# Altium integrated library Analog Devices Data Converters Analog-to-Digital Converters.IntLib: 2400 symbols (part 131 of 338)
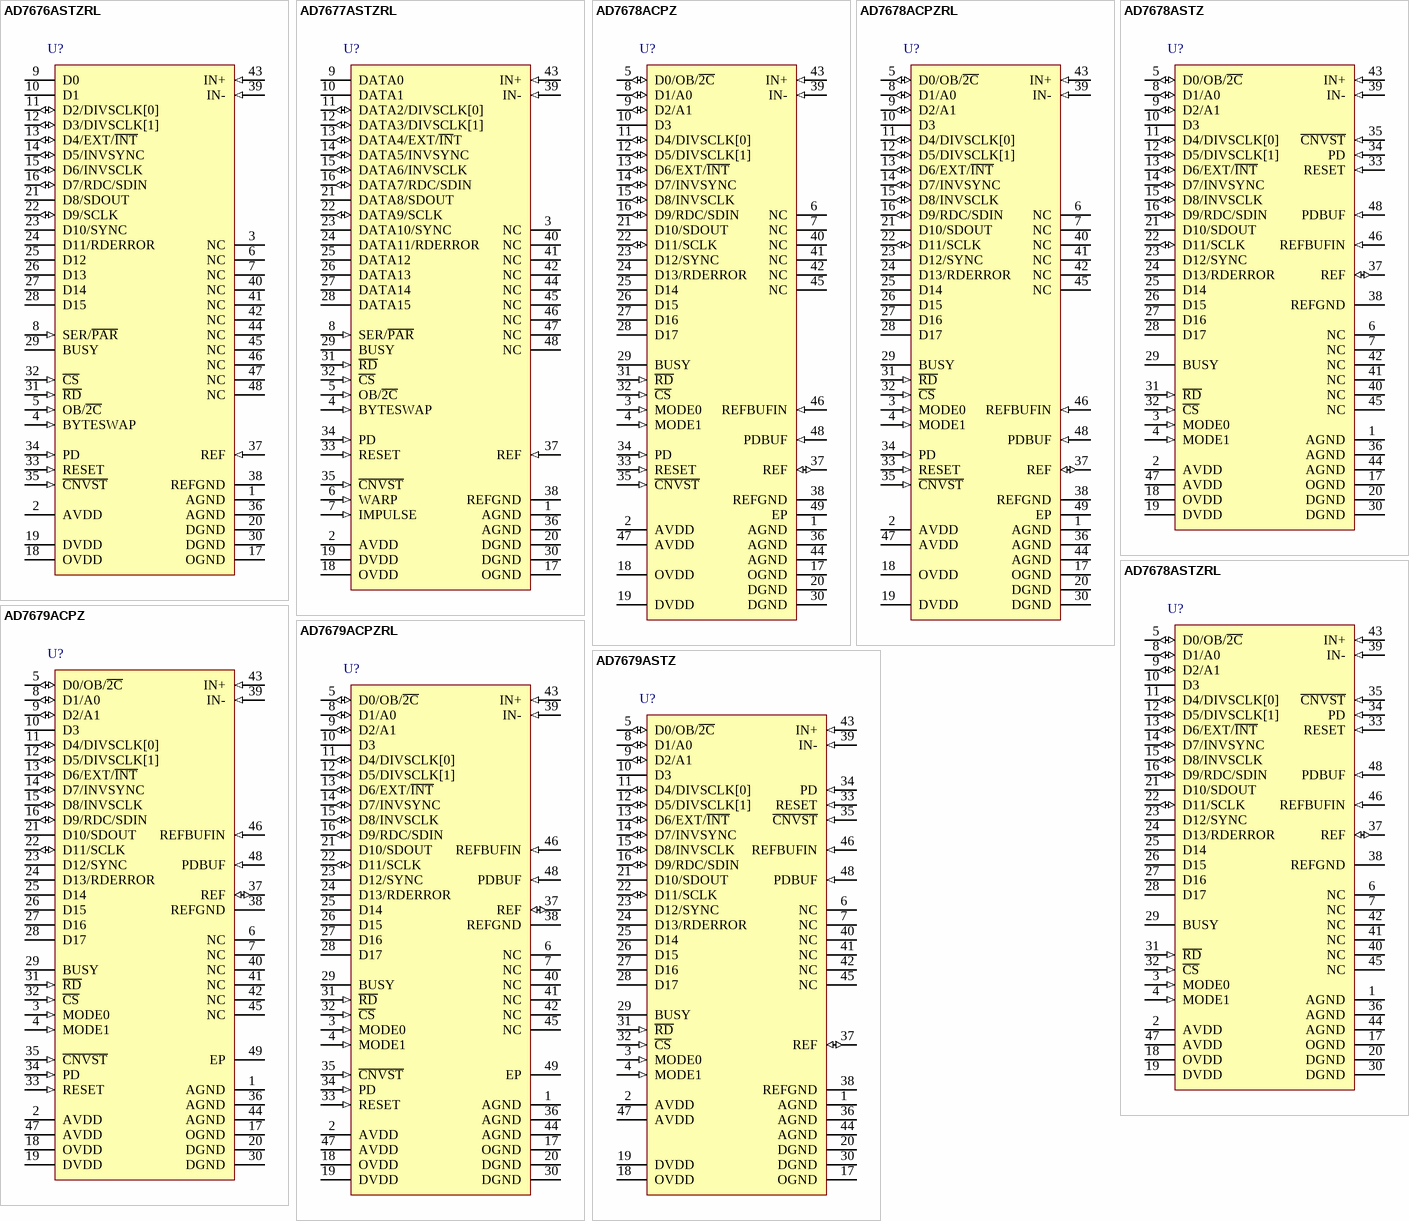
[diagram p231: symbols AD7676ASTZRL to AD7679ASTZ]

## AD7679ACPZRL
designator U?
Single 18-Bit SAR Analog-to-Digital Converter with Byte, Parallel, Serial, SPI Interface, 570KSPS, -40 to +85 degC, CP-48-1, Pb-Free, Reel; Part Number: AD7679; Manufacturer: Analog Devices; Resolution (Bits): 18; Channels: 1; Throughput Rate (SPS): 570K; Interface: Byte, Par, Ser, SPI; Packing: Tray; DatasheetVersion: Rev.A; PackageVersion: Jan-2005; PackageReference: CP-48-1; PackageDescription: 48-Lead Lead Frame Chip Scale Package [LFCSP_VQ] 7 x 7 mm Body, Very Thin Quad; RoHS: Y; Mounting Technology: Surface Mount; Code_JEDEC: MO-220-VKKD-2; ComponentLink1Description: Manufacturer URL; ComponentLink1URL: http://www.analog.com/en/index.html; ComponentLink2Description: Datasheet; ComponentLink2URL: http://www.analog.com/static/imported-files/data_sheets/AD7679.pdf; ComponentLink3Description: Package Specification; ComponentLink3URL: http://www.analog.com/static/imported-files/packages/PKG_PDF/LFCSP(CP)/CP-48/CP_48_1.pdf; ComponentLink4Description: Product URL; ComponentLink4URL: http://www.analog.com/en/analog-to-digital-converters/ad-converters/ad7679/products/product.html
footprint CP-48-1_N (QFN, 48-Leads, Body 7x7mm, Pitch 0.5mm, Thermal Pad 5.1x5.1mm, IPC Medium Density)
footprint CP-48-1_L (QFN, 48-Leads, Body 7x7mm, Pitch 0.5mm, Thermal Pad 5.1x5.1mm, IPC High Density)
footprint CP-48-1_M (QFN, 48-Leads, Body 7x7mm, Pitch 0.5mm, Thermal Pad 5.1x5.1mm, IPC Low Density)
pins: 1 AGND (power) "Analog Power Ground Pin.", 2 AVDD (power) "Input Analog Power Pins. Nominally 5 V.", 3 MODE0 (in) "Data Output Interface Mode Selection.[see datasheet]", 4 MODE1 (in) "Data Output Interface Mode Selection.[see datasheet]", 5 D0/OB/~{2C} (io) "When MODE = 0 (18-bit interface mode), this pin is Bit 0 of the parallel port data output bus and the data coding is straight binary. In all other modes, this pin allows choice of straight binary/binary twos complement. When (See Datasheet)", 6 NC "No Connect.", 7 NC "No Connect.", 8 D1/A0 (io) "When MODE = 0 (18-bit interface mode), this pin is Bit 1 of the parallel port data output bus. In all other modes, this input pin controls the form in which data is output, as shown in Table 7.", 9 D2/A1 (io) "When MODE = 0 or 1 (18-bit or 16-bit interface mode), this pin is Bit 2 of the parallel port data output bus. In all other modes, this input pin controls the form in which data is output, as shown in Table 7.", 10 D3 (hiz) "In all modes except MODE = 3, this output is used as Bit 3 of the parallel port data output bus. This pin is always an output, regardless of the interface mode.", 11 D4/DIVSCLK[0] (io) "In all modes except MODE = 3, this pin are Bit 4 of the parallel port data output bus. When MODE = 3 (serial mode), EXT/I\N\T\ is LOW, and RDC/SDIN is LOW (serial master read after convert), this input, part of the serial (See Datasheet)", 12 D5/DIVSCLK[1] (io) "In all modes except MODE = 3, this pin are Bit 5 of the parallel port data output bus. When MODE = 3 (serial mode), EXT/I\N\T\ is LOW, and RDC/SDIN is LOW (serial master read after convert), these inputs, part of the serial (See Datasheet)", 13 D6/EXT/~{INT} (io) "In all modes except MODE = 3, this output is used as Bit 6 of the parallel port data output bus. When MODE = 3 (serial mode), this input, part of the serial port, is used as a digital select input for choosing the internal (See Datasheet)", 14 D7/INVSYNC (io) "In all modes except MODE = 3, this output is used as Bit 7 of the parallel port data output bus. When MODE = 3 (serial mode), this input, part of the serial port, is used to select the active state of the SYNC signal. When (See Datasheet)", 15 D8/INVSCLK (io) "In all modes except MODE = 3, this output is used as Bit 8 of the parallel port data output bus. When MODE = 3 (serial mode), this input, part of the serial port, is used to invert the SCLK signal. It is active in both (See Datasheet)", 16 D9/RDC/SDIN (io) "In all modes except MODE = 3, this output is used as Bit 9 of the parallel port data output bus. When MODE = 3 (serial mode), this input, part of the serial port, is used as either an external data input or a read mode (See Datasheet)", 17 OGND (power) "Input/Output Interface Digital Power Ground.", 18 OVDD (power) "Output Interface Digital Power. Nominally at the same supply as the host interface (5 V or 3 V). Should not exceed DVDD by more than 0.3 V.", 19 DVDD (power) "Digital Power. Nominally at 5 V.", 20 DGND (power) "Digital Power Ground.", 21 D10/SDOUT (hiz) "In all modes except MODE = 3, this output is used as Bit 10 of the parallel port data output bus. When MODE = 3 (serial mode), this output, part of the serial port, is used as a serial data output synchronized to SCLK. (See Datasheet)", 22 D11/SCLK (io) "In all modes except MODE = 3, this output is used as Bit 11 of the parallel port data output bus. When MODE = 3 (serial mode), this pin, part of the serial port, is used as a serial data clock input or output, dependent upon (See Datasheet)", 23 D12/SYNC (hiz) "In all modes except MODE = 3, this output is used as Bit 12 of the parallel port data output bus. When MODE = 3 (serial mode), this output, part of the serial port, is used as a digital output frame synchronization for use (See Datasheet)", 24 D13/RDERROR (hiz) "In all modes except MODE = 3, this output is used as Bit 13 of the parallel port data output bus. In MODE = 3 (serial mode) and when EXT/ I\N\T\ is HIGH, this output, part of the serial port, is used as an incomplete read (See Datasheet)", 25 D14 (hiz) "Bit 14 of the Parallel Port Data Output Bus. This pin is always output regardless of the interface mode.", 26 D15 (hiz) "Bit 15 of the Parallel Port Data Output Bus. This pin is always output regardless of the interface mode.", 27 D16 (hiz) "Bit 16 of the Parallel Port Data Output Bus. This pin is always output regardless of the interface mode.", 28 D17 (hiz) "Bit 17 of the Parallel Port Data Output Bus. This pin is always output regardless of the interface mode.", 29 BUSY (hiz) "Busy Output. Transitions HIGH when a conversion is started. Remains HIGH until the conversion is complete and the data is latched into the on-chip shift register. The falling edge of BUSY could be used as a data ready clock (See Datasheet)", 30 DGND (power) "Must Be Tied to Digital Ground.", 31 ~{RD} (in) "Read Data. When C\S\ and R\D\ are both LOW, the interface parallel or serial output bus is enabled.", 32 ~{CS} (in) "Chip Select. When C\S\ and R\D\ are both LOW, the interface parallel or serial output bus is enabled. C\S\ is also used to gate the external clock.", 33 RESET (in) "Reset Input. When set to a logic HIGH, reset the AD7679. Current conversion, if any, is aborted. If not used, this pin could be tied to DGND.", 34 PD (in) "Power-Down Input. When set to a logic HIGH, power consumption is reduced and conversions are inhibited after the current one is completed.", 35 ~{CNVST} (in) "Start Conversion. If C\N\V\S\T\ is held HIGH when the acquisition phase (t8) is complete, the next falling edge on C\N\V\S\T\ puts the internal sample/hold into the hold state and initiates a conversion. If C\N\V\S\T\ is (See Datasheet)", 36 AGND (power) "Must Be Tied to Analog Ground.", 37 REF (io) "Reference Input Voltage and Internal Reference Buffer Output. Apply an external reference on this pin if the internal reference buffer is not used. Should be decoupled effectively with or without the internal buffer.", 38 REFGND (power) "Reference Input Analog Ground.", 39 IN- (in) "Differential Negative Analog Input.", 40 NC "No Connect.", 41 NC "No Connect.", 42 NC "No Connect.", 43 IN+ (in) "Differential Positive Analog Input.", 44 AGND (power) "Analog Power Ground Pin.", 45 NC "No Connect.", 46 REFBUFIN (in) "Reference Buffer Input Voltage. The internal reference buffer has a fixed gain. It outputs 4.096 V typically when 2.5 V is applied on this pin.", 47 AVDD (power) "Input Analog Power Pins. Nominally 5 V.", 48 PDBUF (in) "Allows Choice of Buffering Reference. When LOW, buffer is selected. When HIGH, buffer is switched off.", 49 EP (power) "The exposed pad is internally connected to AGND. This connection is not required to meet the electrical performances however, for increased reliability of the solder joints, it is recommended that the pad be soldered to the (See Datasheet)"

## AD7679ASTZ
designator U?
Single 18-Bit SAR Analog-to-Digital Converter with Byte, Parallel, Serial, SPI Interface, 570KSPS, -40 to +85 degC, ST-48, Pb-Free, Tray; Part Number: AD7679; Manufacturer: Analog Devices; Resolution (Bits): 18; Channels: 1; Throughput Rate (SPS): 570K; Interface: Byte, Par, Ser, SPI; DatasheetVersion: Rev.A; PackageVersion: revA; PackageReference: ST-48; PackageDescription: 48-Pin Thin Quad Flat Pack 0.5 mm Pitch; RoHS: Y; Packing: Tray; Mounting Technology: Surface Mount; ComponentLink1Description: Manufacturer URL; ComponentLink1URL: http://www.analog.com/en/index.html; ComponentLink2Description: Datasheet; ComponentLink2URL: http://www.analog.com/static/imported-files/data_sheets/AD7679.pdf; ComponentLink3Description: Package Specification; ComponentLink3URL: http://www.analog.com/static/imported-files/packages/PKG_PDF/LQFP%28ST%29/ST_48.pdf; ComponentLink4Description: Product URL; ComponentLink4URL: http://www.analog.com/en/analog-to-digital-converters/ad-converters/ad7679/products/product.html
footprint ST-48_N (Thin QFP, 48-Leads, Body 7x7mm, Pitch 0.5mm, IPC Medium Density)
footprint ST-48_L (Thin QFP, 48-Leads, Body 7x7mm, Pitch 0.5mm, IPC High Density)
footprint ST-48_M (Thin QFP, 48-Leads, Body 7x7mm, Pitch 0.5mm, IPC Low Density)
pins: 1 AGND (power), 2 AVDD (power) "Input Analog Power Pins. Nominally 5 V.", 3 MODE0 (in) "Data Output Interface Mode Selection", 4 MODE1 (in) "Data Output Interface Mode Selection", 5 D0/OB/~{2C} (io) "When MODE = 0 (18-bit interface mode), this pin is Bit 0 of the parallel port data output bus and the  data coding is straight binary. In all other modes, this pin allows choice of straight binary/binary twos  complement. (See Datasheet)", 6 NC "No Connect.", 7 NC "No Connect.", 8 D1/A0 (io) "When MODE = 0 (18-bit interface mode), this pin is Bit 1 of the parallel port data output bus. In all  other modes, this input pin controls the form in which data is output, as shown in Table 7.", 9 D2/A1 (io) "When MODE = 0 or 1 (18-bit or 16-bit interface mode), this pin is Bit 2 of the parallel port data output  bus. In all other modes, this input pin controls the form in which data is output, as shown in Table 7.", 10 D3 (hiz) "In all modes except MODE = 3, this output is used as Bit 3 of the parallel port data output bus. This pin  is always an output, regardless of the interface mode.", 11 D4/DIVSCLK[0] (io) "In all modes except MODE = 3, these pins are Bit 4 of the parallel port data output bus.  When MODE = 3 (serial mode), EXT/I\N\T\ is LOW, and RDC/SDIN is LOW (serial master read after  convert), these inputs, part of the (See Datasheet)", 12 D5/DIVSCLK[1] (io) "In all modes except MODE = 3, these pins are Bit 5 of the parallel port data output bus.  When MODE = 3 (serial mode), EXT/I\N\T\ is LOW, and RDC/SDIN is LOW (serial master read after  convert), these inputs, part of the (See Datasheet)", 13 D6/EXT/~{INT} (io) "In all modes except MODE = 3, this output is used as Bit 6 of the parallel port data output bus.  When MODE = 3 (serial mode), this input, part of the serial port, is used as a digital select input for  choosing the internal (See Datasheet)", 14 D7/INVSYNC (io) "In all modes except MODE = 3, this output is used as Bit 7 of the parallel port data output bus.  When MODE = 3 (serial mode), this input, part of the serial port, is used to select the active state of the  SYNC signal. When (See Datasheet)", 15 D8/INVSCLK (io) "In all modes except MODE = 3, this output is used as Bit 8 of the parallel port data output bus.  When MODE = 3 (serial mode), this input, part of the serial port, is used to invert the SCLK signal. It is  active in both (See Datasheet)", 16 D9/RDC/SDIN (io) "In all modes except MODE = 3, this output is used as Bit 9 of the parallel port data output bus.   When MODE = 3 (serial mode), this input, part of the serial port, is used as either an external data  input or a read mode (See Datasheet)", 17 OGND (power) "Input/Output Interface Digital Power Ground.", 18 OVDD (power) "Output Interface Digital Power. Nominally at the same supply as the host interface (5 V or 3 V). Should  not exceed DVDD by more than 0.3 V.", 19 DVDD (power) "Digital Power. Nominally at 5 V.", 20 DGND (power) "Digital Power Ground.", 21 D10/SDOUT (hiz) "In all modes except MODE = 3, this output is used as Bit 10 of the parallel port data output bus.  When MODE = 3 (serial mode), this output, part of the serial port, is used as a serial data output  synchronized to SCLK. (See Datasheet)", 22 D11/SCLK (io) "In all modes except MODE = 3, this output is used as Bit 11 of the parallel port data output bus.  When MODE = 3 (serial mode), this pin, part of the serial port, is used as a serial data clock input or  output, dependent (See Datasheet)", 23 D12/SYNC (hiz) "In all modes except MODE = 3, this output is used as Bit 12 of the parallel port data output bus.  When MODE = 3 (serial mode), this output, part of the serial port, is used as a digital output frame  synchronization for use (See Datasheet)", 24 D13/RDERROR (hiz) "In all modes except MODE = 3, this output is used as Bit 13 of the parallel port data output bus.  In MODE = 3 (serial mode) and when EXT/ I\N\T\ is HIGH, this output, part of the serial port, is used as an  incomplete read (See Datasheet)", 25 D14 (hiz) "Bit 14 of the Parallel Port Data Output Bus. These pins are always outputs regardless of the  interface mode.", 26 D15 (hiz) "Bit 15 of the Parallel Port Data Output Bus. These pins are always outputs regardless of the  interface mode.", 27 D16 (hiz) "Bit 16 of the Parallel Port Data Output Bus. These pins are always outputs regardless of the  interface mode.", 28 D17 (hiz) "Bit 17 of the Parallel Port Data Output Bus. These pins are always outputs regardless of the  interface mode.", 29 BUSY (hiz) "Busy Output. Transitions HIGH when a conversion is started. Remains HIGH until the conversion is  complete and the data is latched into the on-chip shift register. The falling edge of BUSY could be  used as a data ready (See Datasheet)", 30 DGND (power) "Must Be Tied to Digital Ground.", 31 ~{RD} (in) "Read Data. When C\S\ and R\D\ are both LOW, the interface parallel or serial output bus is enabled.", 32 ~{CS} (in) "Chip Select. When C\S\ and R\D\ are both LOW, the interface parallel or serial output bus is enabled. C\S\ is also used to gate the external clock.", 33 RESET (in) "Reset Input. When set to a logic HIGH, reset the AD7679. Current conversion, if any, is aborted. If not  used, this pin could be tied to DGND.", 34 PD (in) "Power-Down Input. When set to a logic HIGH, power consumption is reduced and conversions are  inhibited after the current one is completed.", 35 ~{CNVST} (in) "Start Conversion. If C\N\V\S\T\ is held HIGH when the acquisition phase (t8) is complete, the next falling  edge on C\N\V\S\T\ puts the internal sample/hold into the hold state and initiates a conversion. If C\N\V\S\T\ is (See Datasheet)", 36 AGND (power) "Must Be Tied to Analog Ground.", 37 REF (io) "Reference Input Voltage and Internal Reference Buffer Output. Apply an external reference on this pin if the internal reference buffer is not used. Should be decoupled effectively with or without the internal buffer.", 38 REFGND (power) "Reference Input Analog Ground.", 39 IN- (in) "Differential Negative Analog Input.", 40 NC "No Connect.", 41 NC "No Connect.", 42 NC "No Connect.", 43 IN+ (in) "Differential Positive Analog Input.", 44 AGND (power) "Analog Power Ground Pin.", 45 NC "No Connect.", 46 REFBUFIN (in) "Reference Buffer Input Voltage. The internal reference buffer has a fixed gain. It outputs 4.096 V  typically when 2.5 V is applied on this pin.", 47 AVDD (power) "Input Analog Power Pins. Nominally 5 V.", 48 PDBUF (in) "Allows Choice of Buffering Reference. When LOW, buffer is selected. When HIGH, buffer is switched off."

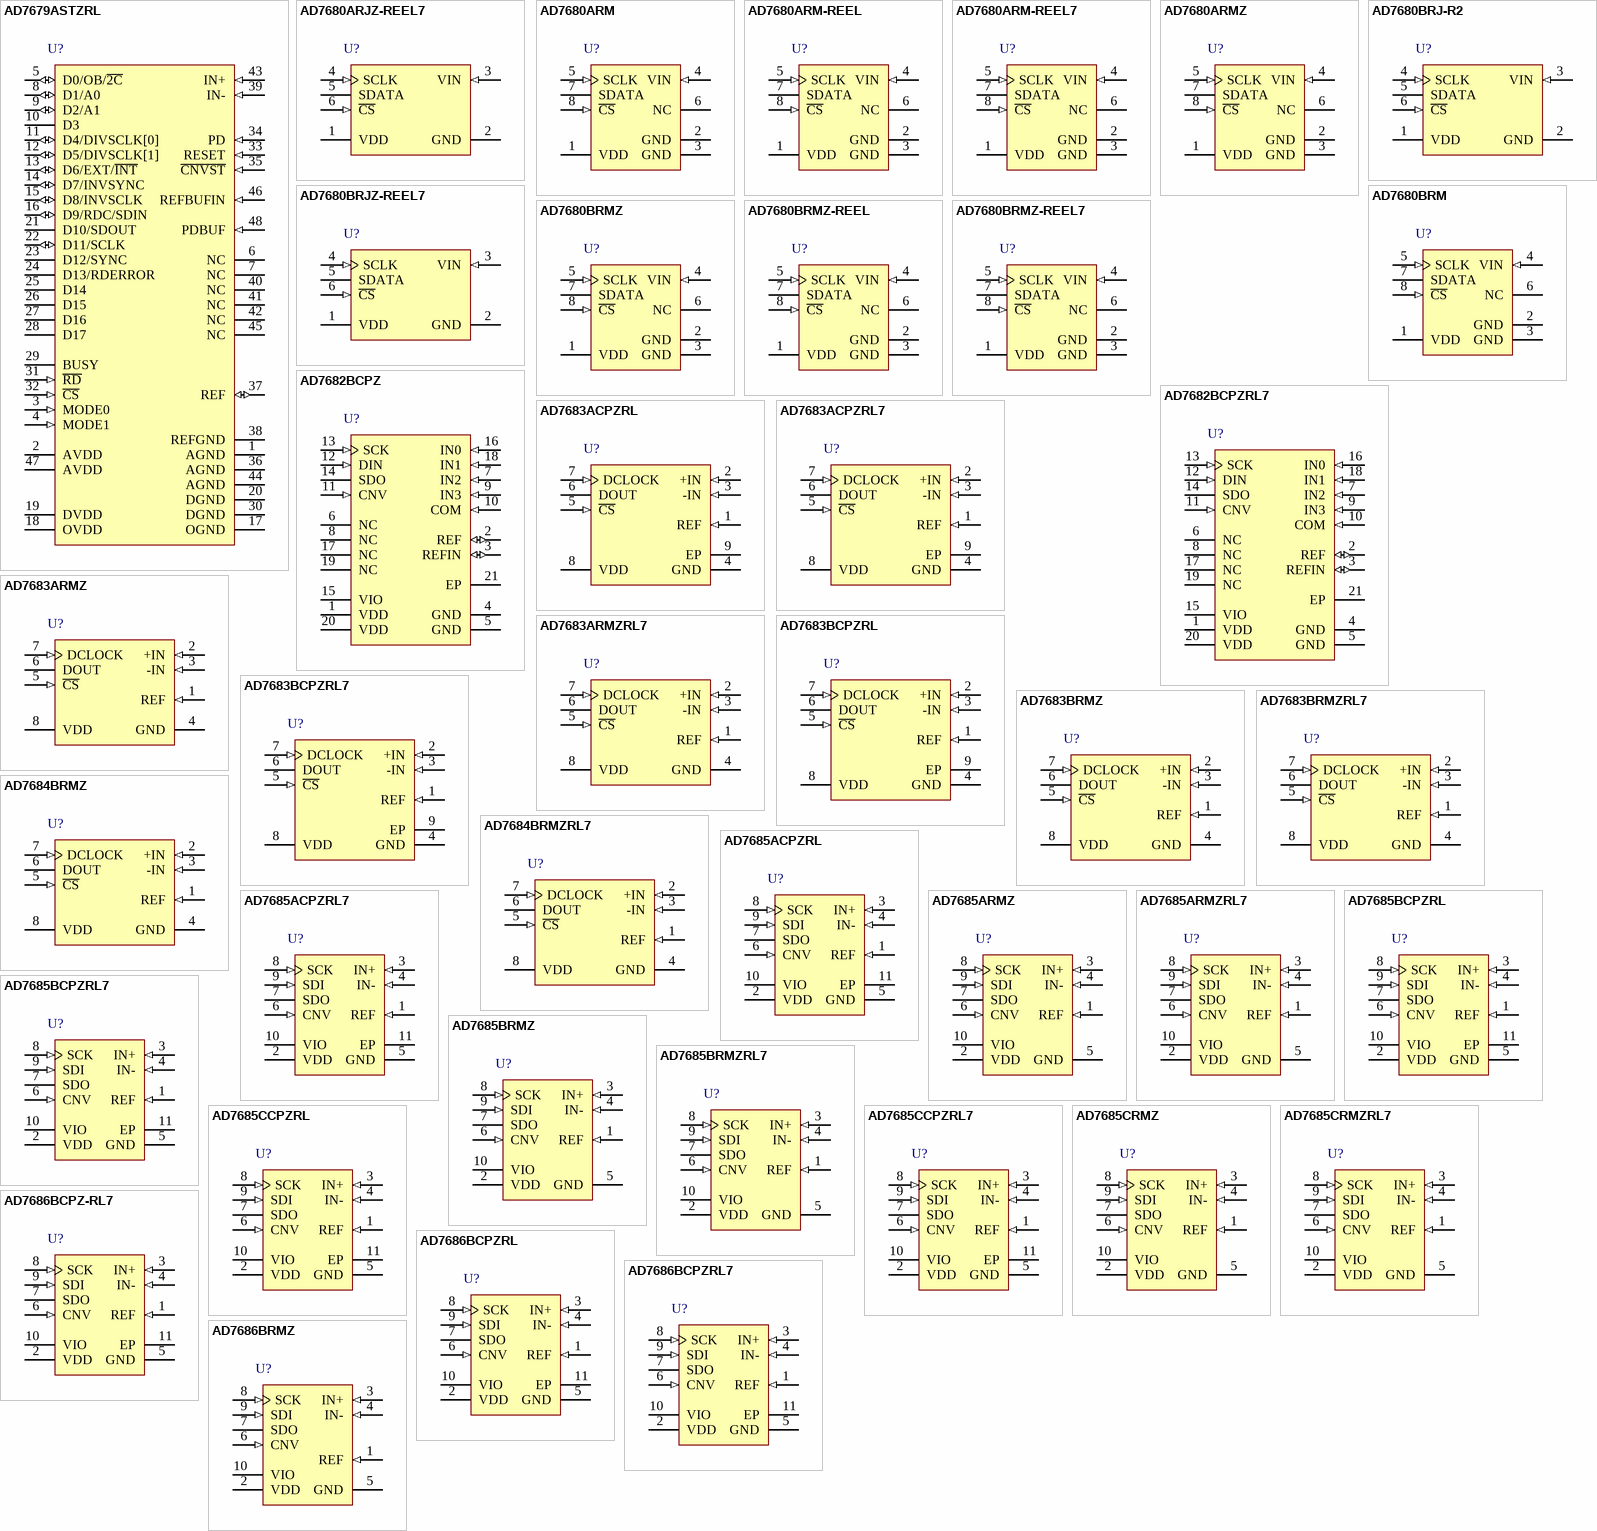
[diagram p44: symbols AD7679ASTZRL to AD7686BRMZ]

## AD7679ASTZRL
designator U?
Single 18-Bit SAR Analog-to-Digital Converter with Byte, Parallel, Serial, SPI Interface, 570KSPS, -40 to +85 degC, ST-48, Pb-Free, Reel; Part Number: AD7679; Manufacturer: Analog Devices; Resolution (Bits): 18; Channels: 1; Throughput Rate (SPS): 570K; Interface: Byte, Par, Ser, SPI; DatasheetVersion: Rev.A; PackageVersion: revA; PackageReference: ST-48; PackageDescription: 48-Pin Thin Quad Flat Pack 0.5 mm Pitch; RoHS: Y; Packing: Reel; Mounting Technology: Surface Mount; ComponentLink1Description: Manufacturer URL; ComponentLink1URL: http://www.analog.com/en/index.html; ComponentLink2Description: Datasheet; ComponentLink2URL: http://www.analog.com/static/imported-files/data_sheets/AD7679.pdf; ComponentLink3Description: Package Specification; ComponentLink3URL: http://www.analog.com/static/imported-files/packages/PKG_PDF/LQFP%28ST%29/ST_48.pdf; ComponentLink4Description: Product URL; ComponentLink4URL: http://www.analog.com/en/analog-to-digital-converters/ad-converters/ad7679/products/product.html
footprint ST-48_N (Thin QFP, 48-Leads, Body 7x7mm, Pitch 0.5mm, IPC Medium Density)
footprint ST-48_L (Thin QFP, 48-Leads, Body 7x7mm, Pitch 0.5mm, IPC High Density)
footprint ST-48_M (Thin QFP, 48-Leads, Body 7x7mm, Pitch 0.5mm, IPC Low Density)
pins: 1 AGND (power), 2 AVDD (power) "Input Analog Power Pins. Nominally 5 V.", 3 MODE0 (in) "Data Output Interface Mode Selection", 4 MODE1 (in) "Data Output Interface Mode Selection", 5 D0/OB/~{2C} (io) "When MODE = 0 (18-bit interface mode), this pin is Bit 0 of the parallel port data output bus and the  data coding is straight binary. In all other modes, this pin allows choice of straight binary/binary twos  complement. (See Datasheet)", 6 NC "No Connect.", 7 NC "No Connect.", 8 D1/A0 (io) "When MODE = 0 (18-bit interface mode), this pin is Bit 1 of the parallel port data output bus. In all  other modes, this input pin controls the form in which data is output, as shown in Table 7.", 9 D2/A1 (io) "When MODE = 0 or 1 (18-bit or 16-bit interface mode), this pin is Bit 2 of the parallel port data output  bus. In all other modes, this input pin controls the form in which data is output, as shown in Table 7.", 10 D3 (hiz) "In all modes except MODE = 3, this output is used as Bit 3 of the parallel port data output bus. This pin  is always an output, regardless of the interface mode.", 11 D4/DIVSCLK[0] (io) "In all modes except MODE = 3, these pins are Bit 4 of the parallel port data output bus.  When MODE = 3 (serial mode), EXT/I\N\T\ is LOW, and RDC/SDIN is LOW (serial master read after  convert), these inputs, part of the (See Datasheet)", 12 D5/DIVSCLK[1] (io) "In all modes except MODE = 3, these pins are Bit 5 of the parallel port data output bus.  When MODE = 3 (serial mode), EXT/I\N\T\ is LOW, and RDC/SDIN is LOW (serial master read after  convert), these inputs, part of the (See Datasheet)", 13 D6/EXT/~{INT} (io) "In all modes except MODE = 3, this output is used as Bit 6 of the parallel port data output bus.  When MODE = 3 (serial mode), this input, part of the serial port, is used as a digital select input for  choosing the internal (See Datasheet)", 14 D7/INVSYNC (io) "In all modes except MODE = 3, this output is used as Bit 7 of the parallel port data output bus.  When MODE = 3 (serial mode), this input, part of the serial port, is used to select the active state of the  SYNC signal. When (See Datasheet)", 15 D8/INVSCLK (io) "In all modes except MODE = 3, this output is used as Bit 8 of the parallel port data output bus.  When MODE = 3 (serial mode), this input, part of the serial port, is used to invert the SCLK signal. It is  active in both (See Datasheet)", 16 D9/RDC/SDIN (io) "In all modes except MODE = 3, this output is used as Bit 9 of the parallel port data output bus.   When MODE = 3 (serial mode), this input, part of the serial port, is used as either an external data  input or a read mode (See Datasheet)", 17 OGND (power) "Input/Output Interface Digital Power Ground.", 18 OVDD (power) "Output Interface Digital Power. Nominally at the same supply as the host interface (5 V or 3 V). Should  not exceed DVDD by more than 0.3 V.", 19 DVDD (power) "Digital Power. Nominally at 5 V.", 20 DGND (power) "Digital Power Ground.", 21 D10/SDOUT (hiz) "In all modes except MODE = 3, this output is used as Bit 10 of the parallel port data output bus.  When MODE = 3 (serial mode), this output, part of the serial port, is used as a serial data output  synchronized to SCLK. (See Datasheet)", 22 D11/SCLK (io) "In all modes except MODE = 3, this output is used as Bit 11 of the parallel port data output bus.  When MODE = 3 (serial mode), this pin, part of the serial port, is used as a serial data clock input or  output, dependent (See Datasheet)", 23 D12/SYNC (hiz) "In all modes except MODE = 3, this output is used as Bit 12 of the parallel port data output bus.  When MODE = 3 (serial mode), this output, part of the serial port, is used as a digital output frame  synchronization for use (See Datasheet)", 24 D13/RDERROR (hiz) "In all modes except MODE = 3, this output is used as Bit 13 of the parallel port data output bus.  In MODE = 3 (serial mode) and when EXT/ I\N\T\ is HIGH, this output, part of the serial port, is used as an  incomplete read (See Datasheet)", 25 D14 (hiz) "Bit 14 of the Parallel Port Data Output Bus. These pins are always outputs regardless of the  interface mode.", 26 D15 (hiz) "Bit 15 of the Parallel Port Data Output Bus. These pins are always outputs regardless of the  interface mode.", 27 D16 (hiz) "Bit 16 of the Parallel Port Data Output Bus. These pins are always outputs regardless of the  interface mode.", 28 D17 (hiz) "Bit 17 of the Parallel Port Data Output Bus. These pins are always outputs regardless of the  interface mode.", 29 BUSY (hiz) "Busy Output. Transitions HIGH when a conversion is started. Remains HIGH until the conversion is  complete and the data is latched into the on-chip shift register. The falling edge of BUSY could be  used as a data ready (See Datasheet)", 30 DGND (power) "Must Be Tied to Digital Ground.", 31 ~{RD} (in) "Read Data. When C\S\ and R\D\ are both LOW, the interface parallel or serial output bus is enabled.", 32 ~{CS} (in) "Chip Select. When C\S\ and R\D\ are both LOW, the interface parallel or serial output bus is enabled. C\S\ is also used to gate the external clock.", 33 RESET (in) "Reset Input. When set to a logic HIGH, reset the AD7679. Current conversion, if any, is aborted. If not  used, this pin could be tied to DGND.", 34 PD (in) "Power-Down Input. When set to a logic HIGH, power consumption is reduced and conversions are  inhibited after the current one is completed.", 35 ~{CNVST} (in) "Start Conversion. If C\N\V\S\T\ is held HIGH when the acquisition phase (t8) is complete, the next falling  edge on C\N\V\S\T\ puts the internal sample/hold into the hold state and initiates a conversion. If C\N\V\S\T\ is (See Datasheet)", 36 AGND (power) "Must Be Tied to Analog Ground.", 37 REF (io) "Reference Input Voltage and Internal Reference Buffer Output. Apply an external reference on this pin if the internal reference buffer is not used. Should be decoupled effectively with or without the internal buffer.", 38 REFGND (power) "Reference Input Analog Ground.", 39 IN- (in) "Differential Negative Analog Input.", 40 NC "No Connect.", 41 NC "No Connect.", 42 NC "No Connect.", 43 IN+ (in) "Differential Positive Analog Input.", 44 AGND (power) "Analog Power Ground Pin.", 45 NC "No Connect.", 46 REFBUFIN (in) "Reference Buffer Input Voltage. The internal reference buffer has a fixed gain. It outputs 4.096 V  typically when 2.5 V is applied on this pin.", 47 AVDD (power) "Input Analog Power Pins. Nominally 5 V.", 48 PDBUF (in) "Allows Choice of Buffering Reference. When LOW, buffer is selected. When HIGH, buffer is switched off."

## AD7680ARJZ-REEL7
designator U?
Single 16-Bit Analog-to-Digital Converter with Serial, SPI Interface, 100KSPS, -40 to +85 degC, RJ-6, Pb-Free, Reel; Part Number: AD7680; Manufacturer: Analog Devices; Resolution (Bits): 16; Channels: 1; Throughput Rate (SPS): 100K; Interface: Ser, SPI; DatasheetVersion: Rev. A; PackageVersion: 121608-A; PackageReference: RJ-6; PackageDescription: 6-Lead Small Outline Transistor Package [SOT-23]; RoHS: Y; Packing: Reel; Mounting Technology: Surface Mount; Code_JEDEC: MO-178-AB; ComponentLink1Description: Manufacturer URL; ComponentLink1URL: http://www.analog.com/en/index.html; ComponentLink2Description: Datasheet; ComponentLink2URL: http://www.analog.com/static/imported-files/data_sheets/AD7680.pdf; ComponentLink3Description: Package Specification; ComponentLink3URL: http://www.analog.com/static/imported-files/packages/PKG_PDF/SOT-23(RJ)/RJ_6.pdf; ComponentLink4Description: Product URL; ComponentLink4URL: http://www.analog.com/en/analog-to-digital-converters/ad-converters/ad7680/products/product.html
footprint RJ-6_N (SOT23, 6-Leads, Body 2.9x1.6mm, Pitch 0.95mm, Lead Span 2.8mm, IPC Medium Density)
footprint RJ-6_L (SOT23, 6-Leads, Body 2.9x1.6mm, Pitch 0.95mm, Lead Span 2.8mm, IPC High Density)
footprint RJ-6_M (SOT23, 6-Leads, Body 2.9x1.6mm, Pitch 0.95mm, Lead Span 2.8mm, IPC Low Density)
pins: 1 VDD (power) "Power Supply Input. The VDD range for the AD7680 is from 2.5 V to 5.5 V.", 2 GND (power) "Analog Ground. Ground reference point for all circuitry on the AD7680. All analog input signals should be referred to this GND voltage.", 3 VIN (in) "Analog Input. Single-ended analog input channel. The input range is 0 V to VDD.", 4 SCLK (in) "Serial Clock. Logic input. SCLK provides the serial clock for accessing data from this part. This clock input is also used as the clock source for the AD7680's conversion process.", 5 SDATA (hiz) "Data Out. Logic output. The conversion result from the AD7680 is provided on this output as a serial  data stream. The bits are clocked out on the falling edge of the SCLK input. The data stream from the AD7680 consists of (See Datasheet)", 6 ~{CS} (in) "Chip Select. Active low logic input. This input provides the dual function of initiating conversions on the AD7680 and framing the serial data transfer."

## AD7680ARM
designator U?
Single 16-Bit Analog-to-Digital Converter with Serial, SPI Interface, 100KSPS, -40 to +85 degC, RM-8, Tube; Part Number: AD7680; Manufacturer: Analog Devices; Resolution (Bits): 16; Channels: 1; Throughput Rate (SPS): 100K; Interface: Ser, SPI; DatasheetVersion: Rev. A; PackageVersion: Aug-2005; PackageReference: RM-8; PackageDescription: 8-Lead Mini Small Outline Package [MSOP]; RoHS: N; Packing: Tube; Mounting Technology: Surface Mount; Code_JEDEC: MO-187-AA; ComponentLink1Description: Manufacturer URL; ComponentLink1URL: http://www.analog.com/en/index.html; ComponentLink2Description: Datasheet; ComponentLink2URL: http://www.analog.com/static/imported-files/data_sheets/AD7680.pdf; ComponentLink3Description: Package Specification; ComponentLink3URL: http://www.analog.com/static/imported-files/packages/PKG_PDF/MSOP%28RM%29/RM_8.pdf; ComponentLink4Description: Product URL; ComponentLink4URL: http://www.analog.com/en/analog-to-digital-converters/ad-converters/ad7680/products/product.html
footprint RM-8_N (TSOP, 8-Leads, Body 3x3mm, Pitch 0.65mm, IPC Medium Density)
footprint RM-8_L (TSOP, 8-Leads, Body 3x3mm, Pitch 0.65mm, IPC High Density)
footprint RM-8_M (TSOP, 8-Leads, Body 3x3mm, Pitch 0.65mm, IPC Low Density)
pins: 1 VDD (power) "Power Supply Input. The VDD range for the AD7680 is from 2.5 V to 5.5 V.", 2 GND (power) "Analog Ground. Ground reference point for all circuitry on the AD7680. All analog input signals should be referred to this GND voltage.", 3 GND (power) "Analog Ground. Ground reference point for all circuitry on the AD7680. All analog input signals should be referred to this GND voltage.", 4 VIN (in) "Analog Input. Single-ended analog input channel. The input range is 0 V to VDD", 5 SCLK (in) "Serial Clock. Logic input. SCLK provides the serial clock for accessing data from this part. This clock input is also used as the clock source for the AD7680's conversion process.", 6 NC "No Connect. This pin should be left unconnected.", 7 SDATA (hiz) "Data Out. Logic output. The conversion result from the AD7680 is provided on this output as a serial data stream. The bits are clocked out on the falling edge of the SCLK input. The data stream from the AD7680 consists of (See Datasheet)", 8 ~{CS} (in) "Chip Select. Active low logic input. This input provides the dual function of initiating conversions on the AD7680 and framing the serial data transfer."

## AD7680ARM-REEL
designator U?
Single 16-Bit Analog-to-Digital Converter with Serial, SPI Interface, 100KSPS, -40 to +85 degC, RM-8, Reel; Part Number: AD7680; Manufacturer: Analog Devices; Resolution (Bits): 16; Channels: 1; Throughput Rate (SPS): 100K; Interface: Ser, SPI; DatasheetVersion: Rev. A; PackageVersion: Aug-2005; PackageReference: RM-8; PackageDescription: 8-Lead Mini Small Outline Package [MSOP]; RoHS: N; Packing: Reel; Mounting Technology: Surface Mount; Code_JEDEC: MO-187-AA; ComponentLink1Description: Manufacturer URL; ComponentLink1URL: http://www.analog.com/en/index.html; ComponentLink2Description: Datasheet; ComponentLink2URL: http://www.analog.com/static/imported-files/data_sheets/AD7680.pdf; ComponentLink3Description: Package Specification; ComponentLink3URL: http://www.analog.com/static/imported-files/packages/PKG_PDF/MSOP%28RM%29/RM_8.pdf; ComponentLink4Description: Product URL; ComponentLink4URL: http://www.analog.com/en/analog-to-digital-converters/ad-converters/ad7680/products/product.html
footprint RM-8_N (TSOP, 8-Leads, Body 3x3mm, Pitch 0.65mm, IPC Medium Density)
footprint RM-8_L (TSOP, 8-Leads, Body 3x3mm, Pitch 0.65mm, IPC High Density)
footprint RM-8_M (TSOP, 8-Leads, Body 3x3mm, Pitch 0.65mm, IPC Low Density)
pins: 1 VDD (power) "Power Supply Input. The VDD range for the AD7680 is from 2.5 V to 5.5 V.", 2 GND (power) "Analog Ground. Ground reference point for all circuitry on the AD7680. All analog input signals should be referred to this GND voltage.", 3 GND (power) "Analog Ground. Ground reference point for all circuitry on the AD7680. All analog input signals should be referred to this GND voltage.", 4 VIN (in) "Analog Input. Single-ended analog input channel. The input range is 0 V to VDD", 5 SCLK (in) "Serial Clock. Logic input. SCLK provides the serial clock for accessing data from this part. This clock input is also used as the clock source for the AD7680's conversion process.", 6 NC "No Connect. This pin should be left unconnected.", 7 SDATA (hiz) "Data Out. Logic output. The conversion result from the AD7680 is provided on this output as a serial data stream. The bits are clocked out on the falling edge of the SCLK input. The data stream from the AD7680 consists of (See Datasheet)", 8 ~{CS} (in) "Chip Select. Active low logic input. This input provides the dual function of initiating conversions on the AD7680 and framing the serial data transfer."

## AD7680ARM-REEL7
designator U?
Single 16-Bit Analog-to-Digital Converter with Serial, SPI Interface, 100KSPS, -40 to +85 degC, RM-8, Reel; Part Number: AD7680; Manufacturer: Analog Devices; Resolution (Bits): 16; Channels: 1; Throughput Rate (SPS): 100K; Interface: Ser, SPI; DatasheetVersion: Rev. A; PackageVersion: Aug-2005; PackageReference: RM-8; PackageDescription: 8-Lead Mini Small Outline Package [MSOP]; RoHS: N; Packing: Reel; Mounting Technology: Surface Mount; Code_JEDEC: MO-187-AA; ComponentLink1Description: Manufacturer URL; ComponentLink1URL: http://www.analog.com/en/index.html; ComponentLink2Description: Datasheet; ComponentLink2URL: http://www.analog.com/static/imported-files/data_sheets/AD7680.pdf; ComponentLink3Description: Package Specification; ComponentLink3URL: http://www.analog.com/static/imported-files/packages/PKG_PDF/MSOP%28RM%29/RM_8.pdf; ComponentLink4Description: Product URL; ComponentLink4URL: http://www.analog.com/en/analog-to-digital-converters/ad-converters/ad7680/products/product.html
footprint RM-8_N (TSOP, 8-Leads, Body 3x3mm, Pitch 0.65mm, IPC Medium Density)
footprint RM-8_L (TSOP, 8-Leads, Body 3x3mm, Pitch 0.65mm, IPC High Density)
footprint RM-8_M (TSOP, 8-Leads, Body 3x3mm, Pitch 0.65mm, IPC Low Density)
pins: 1 VDD (power) "Power Supply Input. The VDD range for the AD7680 is from 2.5 V to 5.5 V.", 2 GND (power) "Analog Ground. Ground reference point for all circuitry on the AD7680. All analog input signals should be referred to this GND voltage.", 3 GND (power) "Analog Ground. Ground reference point for all circuitry on the AD7680. All analog input signals should be referred to this GND voltage.", 4 VIN (in) "Analog Input. Single-ended analog input channel. The input range is 0 V to VDD", 5 SCLK (in) "Serial Clock. Logic input. SCLK provides the serial clock for accessing data from this part. This clock input is also used as the clock source for the AD7680's conversion process.", 6 NC "No Connect. This pin should be left unconnected.", 7 SDATA (hiz) "Data Out. Logic output. The conversion result from the AD7680 is provided on this output as a serial data stream. The bits are clocked out on the falling edge of the SCLK input. The data stream from the AD7680 consists of (See Datasheet)", 8 ~{CS} (in) "Chip Select. Active low logic input. This input provides the dual function of initiating conversions on the AD7680 and framing the serial data transfer."

## AD7680ARMZ
designator U?
Single 16-Bit Analog-to-Digital Converter with Serial, SPI Interface, 100KSPS, -40 to +85 degC, RM-8, Pb-Free, Tube; Part Number: AD7680; Manufacturer: Analog Devices; Resolution (Bits): 16; Channels: 1; Throughput Rate (SPS): 100K; Interface: Ser, SPI; DatasheetVersion: Rev. A; PackageVersion: Aug-2005; PackageReference: RM-8; PackageDescription: 8-Lead Mini Small Outline Package [MSOP]; RoHS: Y; Packing: Tube; Mounting Technology: Surface Mount; Code_JEDEC: MO-187-AA; ComponentLink1Description: Manufacturer URL; ComponentLink1URL: http://www.analog.com/en/index.html; ComponentLink2Description: Datasheet; ComponentLink2URL: http://www.analog.com/static/imported-files/data_sheets/AD7680.pdf; ComponentLink3Description: Package Specification; ComponentLink3URL: http://www.analog.com/static/imported-files/packages/PKG_PDF/MSOP%28RM%29/RM_8.pdf; ComponentLink4Description: Product URL; ComponentLink4URL: http://www.analog.com/en/analog-to-digital-converters/ad-converters/ad7680/products/product.html
footprint RM-8_N (TSOP, 8-Leads, Body 3x3mm, Pitch 0.65mm, IPC Medium Density)
footprint RM-8_L (TSOP, 8-Leads, Body 3x3mm, Pitch 0.65mm, IPC High Density)
footprint RM-8_M (TSOP, 8-Leads, Body 3x3mm, Pitch 0.65mm, IPC Low Density)
pins: 1 VDD (power) "Power Supply Input. The VDD range for the AD7680 is from 2.5 V to 5.5 V.", 2 GND (power) "Analog Ground. Ground reference point for all circuitry on the AD7680. All analog input signals should be referred to this GND voltage.", 3 GND (power) "Analog Ground. Ground reference point for all circuitry on the AD7680. All analog input signals should be referred to this GND voltage.", 4 VIN (in) "Analog Input. Single-ended analog input channel. The input range is 0 V to VDD", 5 SCLK (in) "Serial Clock. Logic input. SCLK provides the serial clock for accessing data from this part. This clock input is also used as the clock source for the AD7680's conversion process.", 6 NC "No Connect. This pin should be left unconnected.", 7 SDATA (hiz) "Data Out. Logic output. The conversion result from the AD7680 is provided on this output as a serial data stream. The bits are clocked out on the falling edge of the SCLK input. The data stream from the AD7680 consists of (See Datasheet)", 8 ~{CS} (in) "Chip Select. Active low logic input. This input provides the dual function of initiating conversions on the AD7680 and framing the serial data transfer."

## AD7680BRJ-R2
designator U?
Single 16-Bit Analog-to-Digital Converter with Serial, SPI Interface, 100KSPS, -40 to +85 degC, RJ-6, Reel; Part Number: AD7680; Manufacturer: Analog Devices; Resolution (Bits): 16; Channels: 1; Throughput Rate (SPS): 100K; Interface: Ser, SPI; DatasheetVersion: Rev. A; PackageVersion: 121608-A; PackageReference: RJ-6; PackageDescription: 6-Lead Small Outline Transistor Package [SOT-23]; RoHS: N; Packing: Reel; Mounting Technology: Surface Mount; Code_JEDEC: MO-178-AB; ComponentLink1Description: Manufacturer URL; ComponentLink1URL: http://www.analog.com/en/index.html; ComponentLink2Description: Datasheet; ComponentLink2URL: http://www.analog.com/static/imported-files/data_sheets/AD7680.pdf; ComponentLink3Description: Package Specification; ComponentLink3URL: http://www.analog.com/static/imported-files/packages/PKG_PDF/SOT-23(RJ)/RJ_6.pdf; ComponentLink4Description: Product URL; ComponentLink4URL: http://www.analog.com/en/analog-to-digital-converters/ad-converters/ad7680/products/product.html
footprint RJ-6_N (SOT23, 6-Leads, Body 2.9x1.6mm, Pitch 0.95mm, Lead Span 2.8mm, IPC Medium Density)
footprint RJ-6_L (SOT23, 6-Leads, Body 2.9x1.6mm, Pitch 0.95mm, Lead Span 2.8mm, IPC High Density)
footprint RJ-6_M (SOT23, 6-Leads, Body 2.9x1.6mm, Pitch 0.95mm, Lead Span 2.8mm, IPC Low Density)
pins: 1 VDD (power) "Power Supply Input. The VDD range for the AD7680 is from 2.5 V to 5.5 V.", 2 GND (power) "Analog Ground. Ground reference point for all circuitry on the AD7680. All analog input signals should be referred to this GND voltage.", 3 VIN (in) "Analog Input. Single-ended analog input channel. The input range is 0 V to VDD.", 4 SCLK (in) "Serial Clock. Logic input. SCLK provides the serial clock for accessing data from this part. This clock input is also used as the clock source for the AD7680's conversion process.", 5 SDATA (hiz) "Data Out. Logic output. The conversion result from the AD7680 is provided on this output as a serial  data stream. The bits are clocked out on the falling edge of the SCLK input. The data stream from the AD7680 consists of (See Datasheet)", 6 ~{CS} (in) "Chip Select. Active low logic input. This input provides the dual function of initiating conversions on the AD7680 and framing the serial data transfer."

## AD7680BRJZ-REEL7
designator U?
Single 16-Bit Analog-to-Digital Converter with Serial, SPI Interface, 100KSPS, -40 to +85 degC, RJ-6, Pb-Free, Reel; Part Number: AD7680; Manufacturer: Analog Devices; Resolution (Bits): 16; Channels: 1; Throughput Rate (SPS): 100K; Interface: Ser, SPI; DatasheetVersion: Rev. A; PackageVersion: 121608-A; PackageReference: RJ-6; PackageDescription: 6-Lead Small Outline Transistor Package [SOT-23]; RoHS: Y; Packing: Reel; Mounting Technology: Surface Mount; Code_JEDEC: MO-178-AB; ComponentLink1Description: Manufacturer URL; ComponentLink1URL: http://www.analog.com/en/index.html; ComponentLink2Description: Datasheet; ComponentLink2URL: http://www.analog.com/static/imported-files/data_sheets/AD7680.pdf; ComponentLink3Description: Package Specification; ComponentLink3URL: http://www.analog.com/static/imported-files/packages/PKG_PDF/SOT-23(RJ)/RJ_6.pdf; ComponentLink4Description: Product URL; ComponentLink4URL: http://www.analog.com/en/analog-to-digital-converters/ad-converters/ad7680/products/product.html
footprint RJ-6_N (SOT23, 6-Leads, Body 2.9x1.6mm, Pitch 0.95mm, Lead Span 2.8mm, IPC Medium Density)
footprint RJ-6_L (SOT23, 6-Leads, Body 2.9x1.6mm, Pitch 0.95mm, Lead Span 2.8mm, IPC High Density)
footprint RJ-6_M (SOT23, 6-Leads, Body 2.9x1.6mm, Pitch 0.95mm, Lead Span 2.8mm, IPC Low Density)
pins: 1 VDD (power) "Power Supply Input. The VDD range for the AD7680 is from 2.5 V to 5.5 V.", 2 GND (power) "Analog Ground. Ground reference point for all circuitry on the AD7680. All analog input signals should be referred to this GND voltage.", 3 VIN (in) "Analog Input. Single-ended analog input channel. The input range is 0 V to VDD.", 4 SCLK (in) "Serial Clock. Logic input. SCLK provides the serial clock for accessing data from this part. This clock input is also used as the clock source for the AD7680's conversion process.", 5 SDATA (hiz) "Data Out. Logic output. The conversion result from the AD7680 is provided on this output as a serial  data stream. The bits are clocked out on the falling edge of the SCLK input. The data stream from the AD7680 consists of (See Datasheet)", 6 ~{CS} (in) "Chip Select. Active low logic input. This input provides the dual function of initiating conversions on the AD7680 and framing the serial data transfer."

## AD7680BRM
designator U?
Single 16-Bit Analog-to-Digital Converter with Serial, SPI Interface, 100KSPS, -40 to +85 degC, RM-8, Tube; Part Number: AD7680; Manufacturer: Analog Devices; Resolution (Bits): 16; Channels: 1; Throughput Rate (SPS): 100K; Interface: Ser, SPI; DatasheetVersion: Rev. A; PackageVersion: Aug-2005; PackageReference: RM-8; PackageDescription: 8-Lead Mini Small Outline Package [MSOP]; RoHS: N; Packing: Tube; Mounting Technology: Surface Mount; Code_JEDEC: MO-187-AA; ComponentLink1Description: Manufacturer URL; ComponentLink1URL: http://www.analog.com/en/index.html; ComponentLink2Description: Datasheet; ComponentLink2URL: http://www.analog.com/static/imported-files/data_sheets/AD7680.pdf; ComponentLink3Description: Package Specification; ComponentLink3URL: http://www.analog.com/static/imported-files/packages/PKG_PDF/MSOP%28RM%29/RM_8.pdf; ComponentLink4Description: Product URL; ComponentLink4URL: http://www.analog.com/en/analog-to-digital-converters/ad-converters/ad7680/products/product.html
footprint RM-8_N (TSOP, 8-Leads, Body 3x3mm, Pitch 0.65mm, IPC Medium Density)
footprint RM-8_L (TSOP, 8-Leads, Body 3x3mm, Pitch 0.65mm, IPC High Density)
footprint RM-8_M (TSOP, 8-Leads, Body 3x3mm, Pitch 0.65mm, IPC Low Density)
pins: 1 VDD (power) "Power Supply Input. The VDD range for the AD7680 is from 2.5 V to 5.5 V.", 2 GND (power) "Analog Ground. Ground reference point for all circuitry on the AD7680. All analog input signals should be referred to this GND voltage.", 3 GND (power) "Analog Ground. Ground reference point for all circuitry on the AD7680. All analog input signals should be referred to this GND voltage.", 4 VIN (in) "Analog Input. Single-ended analog input channel. The input range is 0 V to VDD", 5 SCLK (in) "Serial Clock. Logic input. SCLK provides the serial clock for accessing data from this part. This clock input is also used as the clock source for the AD7680's conversion process.", 6 NC "No Connect. This pin should be left unconnected.", 7 SDATA (hiz) "Data Out. Logic output. The conversion result from the AD7680 is provided on this output as a serial data stream. The bits are clocked out on the falling edge of the SCLK input. The data stream from the AD7680 consists of (See Datasheet)", 8 ~{CS} (in) "Chip Select. Active low logic input. This input provides the dual function of initiating conversions on the AD7680 and framing the serial data transfer."

## AD7680BRMZ
designator U?
Single 16-Bit Analog-to-Digital Converter with Serial, SPI Interface, 100KSPS, -40 to +85 degC, RM-8, Pb-Free, Tube; Part Number: AD7680; Manufacturer: Analog Devices; Resolution (Bits): 16; Channels: 1; Throughput Rate (SPS): 100K; Interface: Ser, SPI; DatasheetVersion: Rev. A; PackageVersion: Aug-2005; PackageReference: RM-8; PackageDescription: 8-Lead Mini Small Outline Package [MSOP]; RoHS: Y; Packing: Tube; Mounting Technology: Surface Mount; Code_JEDEC: MO-187-AA; ComponentLink1Description: Manufacturer URL; ComponentLink1URL: http://www.analog.com/en/index.html; ComponentLink2Description: Datasheet; ComponentLink2URL: http://www.analog.com/static/imported-files/data_sheets/AD7680.pdf; ComponentLink3Description: Package Specification; ComponentLink3URL: http://www.analog.com/static/imported-files/packages/PKG_PDF/MSOP%28RM%29/RM_8.pdf; ComponentLink4Description: Product URL; ComponentLink4URL: http://www.analog.com/en/analog-to-digital-converters/ad-converters/ad7680/products/product.html
footprint RM-8_N (TSOP, 8-Leads, Body 3x3mm, Pitch 0.65mm, IPC Medium Density)
footprint RM-8_L (TSOP, 8-Leads, Body 3x3mm, Pitch 0.65mm, IPC High Density)
footprint RM-8_M (TSOP, 8-Leads, Body 3x3mm, Pitch 0.65mm, IPC Low Density)
pins: 1 VDD (power) "Power Supply Input. The VDD range for the AD7680 is from 2.5 V to 5.5 V.", 2 GND (power) "Analog Ground. Ground reference point for all circuitry on the AD7680. All analog input signals should be referred to this GND voltage.", 3 GND (power) "Analog Ground. Ground reference point for all circuitry on the AD7680. All analog input signals should be referred to this GND voltage.", 4 VIN (in) "Analog Input. Single-ended analog input channel. The input range is 0 V to VDD", 5 SCLK (in) "Serial Clock. Logic input. SCLK provides the serial clock for accessing data from this part. This clock input is also used as the clock source for the AD7680's conversion process.", 6 NC "No Connect. This pin should be left unconnected.", 7 SDATA (hiz) "Data Out. Logic output. The conversion result from the AD7680 is provided on this output as a serial data stream. The bits are clocked out on the falling edge of the SCLK input. The data stream from the AD7680 consists of (See Datasheet)", 8 ~{CS} (in) "Chip Select. Active low logic input. This input provides the dual function of initiating conversions on the AD7680 and framing the serial data transfer."

## AD7680BRMZ-REEL
designator U?
Single 16-Bit Analog-to-Digital Converter with Serial, SPI Interface, 100KSPS, -40 to +85 degC, RM-8, Pb-Free, Reel; Part Number: AD7680; Manufacturer: Analog Devices; Resolution (Bits): 16; Channels: 1; Throughput Rate (SPS): 100K; Interface: Ser, SPI; DatasheetVersion: Rev. A; PackageVersion: Aug-2005; PackageReference: RM-8; PackageDescription: 8-Lead Mini Small Outline Package [MSOP]; RoHS: Y; Packing: Reel; Mounting Technology: Surface Mount; Code_JEDEC: MO-187-AA; ComponentLink1Description: Manufacturer URL; ComponentLink1URL: http://www.analog.com/en/index.html; ComponentLink2Description: Datasheet; ComponentLink2URL: http://www.analog.com/static/imported-files/data_sheets/AD7680.pdf; ComponentLink3Description: Package Specification; ComponentLink3URL: http://www.analog.com/static/imported-files/packages/PKG_PDF/MSOP%28RM%29/RM_8.pdf; ComponentLink4Description: Product URL; ComponentLink4URL: http://www.analog.com/en/analog-to-digital-converters/ad-converters/ad7680/products/product.html
footprint RM-8_N (TSOP, 8-Leads, Body 3x3mm, Pitch 0.65mm, IPC Medium Density)
footprint RM-8_L (TSOP, 8-Leads, Body 3x3mm, Pitch 0.65mm, IPC High Density)
footprint RM-8_M (TSOP, 8-Leads, Body 3x3mm, Pitch 0.65mm, IPC Low Density)
pins: 1 VDD (power) "Power Supply Input. The VDD range for the AD7680 is from 2.5 V to 5.5 V.", 2 GND (power) "Analog Ground. Ground reference point for all circuitry on the AD7680. All analog input signals should be referred to this GND voltage.", 3 GND (power) "Analog Ground. Ground reference point for all circuitry on the AD7680. All analog input signals should be referred to this GND voltage.", 4 VIN (in) "Analog Input. Single-ended analog input channel. The input range is 0 V to VDD", 5 SCLK (in) "Serial Clock. Logic input. SCLK provides the serial clock for accessing data from this part. This clock input is also used as the clock source for the AD7680's conversion process.", 6 NC "No Connect. This pin should be left unconnected.", 7 SDATA (hiz) "Data Out. Logic output. The conversion result from the AD7680 is provided on this output as a serial data stream. The bits are clocked out on the falling edge of the SCLK input. The data stream from the AD7680 consists of (See Datasheet)", 8 ~{CS} (in) "Chip Select. Active low logic input. This input provides the dual function of initiating conversions on the AD7680 and framing the serial data transfer."